# Altium footprint library Discretes.PCBLIB: 77 footprints (part 2 of 5)
Each footprint in its own frame and in the unit in brackets; x right, y up, seen from the top. Pads: shape width x height; smd on the part's side, far side on the other; paste and mask are expansions set on the pad; w line width, h text height; cw(c..) or ccw(c..) is an arc to the next point about the centre after c.
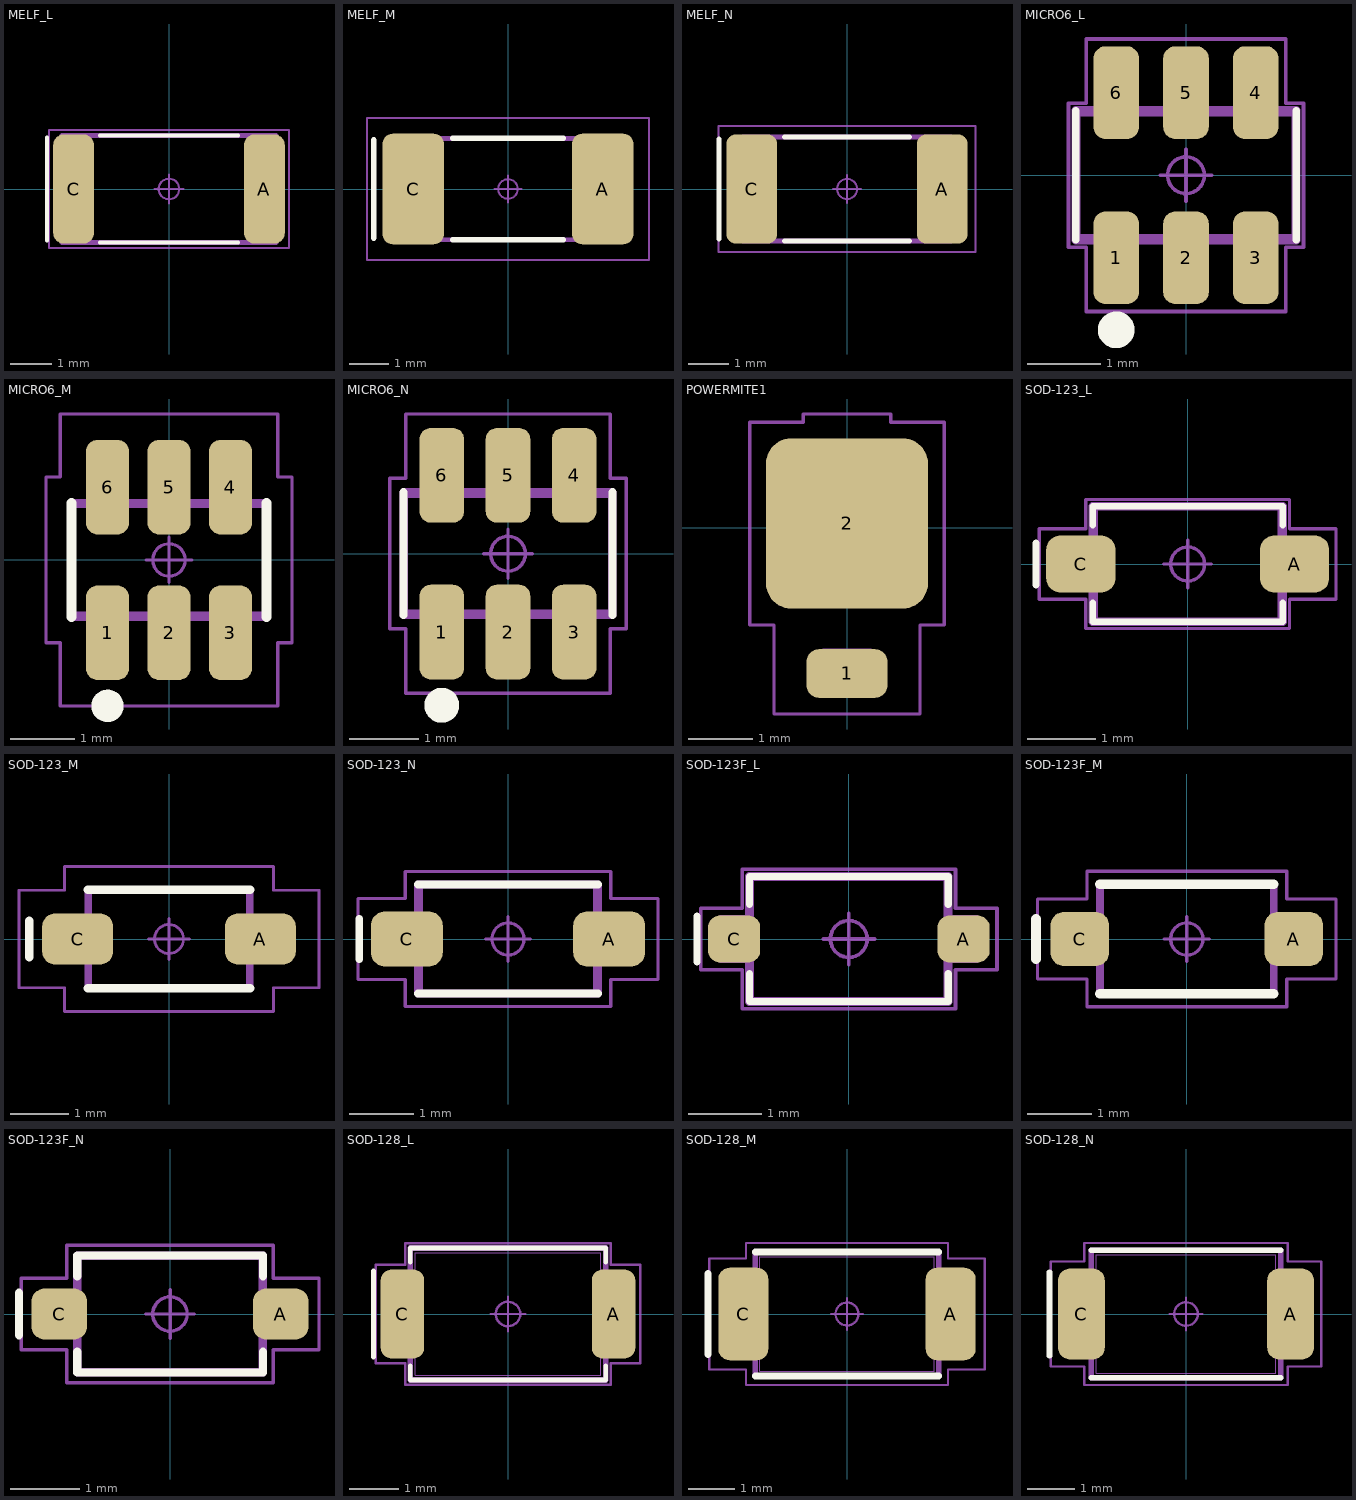
[diagram p1: the footprints below, top view; thin cyan lines are the x and y axes]

## MELF_L [mm] "Diode, Metal Electrode Leadless Face (MELF); 5.00 mm L X 2.50 mm Dia body"
height 2.6
pads (2):
  rrect51% 0.99x2.65 smd: A(2.315,0) C(-2.315,0)
Top Overlay:
  lines w0.1: -2.96,-1.25 -2.96,1.25 ; -1.67,-1.3 1.67,-1.3 ; -1.67,1.3 1.67,1.3
Top Body, 3D Models:
  lines w0.025: -2.5,-1.25 -2.5,1.25 2.5,1.25 2.5,-1.25 -2.5,-1.25
Top Courtyard:
  circle w0.05: c0,0 r0.25
  lines w0.05: -0.35,0 0.35,0 ; 0,-0.35 0,0.35 ; -2.91,-1.43 -2.91,1.43 2.91,1.43 2.91,-1.43 -2.91,-1.43
Top DesignatorDoc:
  text ".Designator" at 0,0 h1
Top Pad Outlines:
  lines w0.025: -2.5,-1.25 -1.95,-1.25 -1.95,1.25 -2.5,1.25 -2.5,-1.25 ; 1.95,-1.25 1.95,1.25 2.5,1.25 2.5,-1.25 1.95,-1.25
Top Assembly Outline:
  lines w0.12: -2.6,-1.3 -2.6,1.3 2.6,1.3 2.6,-1.3 -2.6,-1.3
3D body "MELF_L.STEP": height 2.5, standoff 0, extent -2.5,-1.25 2.5,1.25

## MELF_M [mm] "Diode, Metal Electrode Leadless Face (MELF); 5.00 mm L X 2.50 mm Dia body"
height 2.6
pads (2):
  rrect32% 1.57x2.83 smd: A(2.425,0) C(-2.425,0)
Top Overlay:
  lines w0.15: -3.435,-1.25 -3.435,1.25 ; -1.415,-1.3 1.415,-1.3 ; -1.415,1.3 1.415,1.3
Top Body, 3D Models:
  lines w0.025: -2.5,-1.25 -2.5,1.25 2.5,1.25 2.5,-1.25 -2.5,-1.25
Top Courtyard:
  circle w0.05: c0,0 r0.25
  lines w0.05: -0.35,0 0.35,0 ; 0,-0.35 0,0.35 ; -3.61,-1.82 -3.61,1.82 3.61,1.82 3.61,-1.82 -3.61,-1.82
Top DesignatorDoc:
  text ".Designator" at 0,0 h1.5
Top Pad Outlines:
  lines w0.025: -2.5,-1.25 -1.95,-1.25 -1.95,1.25 -2.5,1.25 -2.5,-1.25 ; 1.95,-1.25 1.95,1.25 2.5,1.25 2.5,-1.25 1.95,-1.25
Top Assembly Outline:
  lines w0.12: -2.6,-1.3 -2.6,1.3 2.6,1.3 2.6,-1.3 -2.6,-1.3
3D body "MELF_M.STEP": height 2.5, standoff 0, extent -2.5,-1.25 2.5,1.25

## MELF_N [mm] "Diode, Metal Electrode Leadless Face (MELF); 5.00 mm L X 2.50 mm Dia body"
height 2.6
pads (2):
  rrect39% 1.27x2.73 smd: A(2.375,0) C(-2.375,0)
Top Overlay:
  lines w0.12: -3.19,-1.25 -3.19,1.25 ; -1.56,-1.3 1.56,-1.3 ; -1.56,1.3 1.56,1.3
Top Body, 3D Models:
  lines w0.025: -2.5,-1.25 2.5,-1.25 2.5,1.25 -2.5,1.25 -2.5,-1.25
Top Courtyard:
  circle w0.05: c0,0 r0.25
  lines w0.05: -0.35,0 0.35,0 ; 0,-0.35 0,0.35 ; -3.21,-1.57 3.21,-1.57 3.21,1.57 -3.21,1.57 -3.21,-1.57
Top DesignatorDoc:
  text ".Designator" at 0,0 h1.2
Top Pad Outlines:
  lines w0.025: -2.5,-1.25 -2.5,1.25 -1.95,1.25 -1.95,-1.25 -2.5,-1.25 ; 1.95,-1.25 2.5,-1.25 2.5,1.25 1.95,1.25 1.95,-1.25
Top Assembly Outline:
  lines w0.12: -2.6,-1.3 2.6,-1.3 2.6,1.3 -2.6,1.3 -2.6,-1.3
3D body "MELF_N.STEP": height 2.5, standoff 0, extent -2.5,-1.25 2.5,1.25

## MICRO6_L [mm] "Small Outline Pkg (SOP), 0.95 mm pitch; 6 pin, 2.90 mm L X 1.625 mm W X 1.45 mm H body"
height 1.45
pads (6):
  rrect52% 0.62x1.26 smd: 1(-0.95,-1.125) 2(0,-1.125) 3(0.95,-1.125) 4(0.95,1.125) 5(0,1.125) 6(-0.95,1.125)
Top Overlay:
  circle w0.25: c-0.95,-2.105 r0.125
  lines w0.1: -1.5,-0.88 -1.5,0.88 ; 1.5,-0.88 1.5,0.88
Top Body, 3D Models:
  lines w0.025: -1.45,-0.813 1.45,-0.813 1.45,0.813 -1.45,0.813 -1.45,-0.813
Top Courtyard:
  circle w0.05: c0,0 r0.25
  lines w0.05: -0.35,0 0.35,0 ; 0,-0.35 0,0.35 ; -1.6,-0.98 -1.36,-0.98 -1.36,-1.855 1.36,-1.855 1.36,-0.98 1.6,-0.98 1.6,0.98 1.36,0.98 1.36,1.855 -1.36,1.855 -1.36,0.98 -1.6,0.98 -1.6,-0.98
Top DesignatorDoc:
  text ".Designator" at 0,0 h1
Top Pad Outlines:
  lines w0.025: -1.162,-1.4 -1.162,-1.05 -0.737,-1.05 -0.737,-1.4 -1.162,-1.4 ; -1.162,1.05 -1.162,1.4 -0.737,1.4 -0.737,1.05 -1.162,1.05 ; -0.212,-1.4 -0.212,-1.05 0.212,-1.05 0.212,-1.4 -0.212,-1.4 ; -0.212,1.05 -0.212,1.4 0.212,1.4 0.212,1.05 -0.212,1.05 ; 0.737,-1.4 0.737,-1.05 1.162,-1.05 1.162,-1.4 0.737,-1.4 ; 0.737,1.05 0.737,1.4 1.162,1.4 1.162,1.05 0.737,1.05
Top Assembly Outline:
  lines w0.12: -1.5,-0.88 1.5,-0.88 1.5,0.88 -1.5,0.88 -1.5,-0.88
3D body "MICRO6_L.STEP": height 1.45, standoff 0, extent -1.45,-1.4 1.45,1.4

## MICRO6_M [mm] "Small Outline Pkg (SOP), 0.95 mm pitch; 6 pin, 2.90 mm L X 1.625 mm W X 1.45 mm H body"
height 1.45
pads (6):
  rrect52% 0.66x1.46 smd: 1(-0.95,-1.125) 2(0,-1.125) 3(0.95,-1.125) 4(0.95,1.125) 5(0,1.125) 6(-0.95,1.125)
Top Overlay:
  circle w0.25: c-0.95,-2.255 r0.125
  lines w0.15: -1.505,-0.88 -1.505,0.88 ; 1.505,-0.88 1.505,0.88
Top Body, 3D Models:
  lines w0.025: -1.45,-0.813 -1.45,0.813 1.45,0.813 1.45,-0.813 -1.45,-0.813
Top Courtyard:
  circle w0.05: c0,0 r0.25
  lines w0.05: -0.35,0 0.35,0 ; 0,-0.35 0,0.35 ; -1.9,-1.28 -1.9,1.28 -1.68,1.28 -1.68,2.255 1.68,2.255 1.68,1.28 1.9,1.28 1.9,-1.28 1.68,-1.28 1.68,-2.255 -1.68,-2.255 -1.68,-1.28 -1.9,-1.28
Top DesignatorDoc:
  text ".Designator" at 0,0 h1.5
Top Pad Outlines:
  lines w0.025: -1.162,-1.4 -0.737,-1.4 -0.737,-1.05 -1.162,-1.05 -1.162,-1.4 ; -1.162,1.05 -0.737,1.05 -0.737,1.4 -1.162,1.4 -1.162,1.05 ; -0.212,-1.4 0.212,-1.4 0.212,-1.05 -0.212,-1.05 -0.212,-1.4 ; -0.212,1.05 0.212,1.05 0.212,1.4 -0.212,1.4 -0.212,1.05 ; 0.737,-1.4 1.162,-1.4 1.162,-1.05 0.737,-1.05 0.737,-1.4 ; 0.737,1.05 1.162,1.05 1.162,1.4 0.737,1.4 0.737,1.05
Top Assembly Outline:
  lines w0.12: -1.5,-0.88 -1.5,0.88 1.5,0.88 1.5,-0.88 -1.5,-0.88
3D body "MICRO6_M.STEP": height 1.45, standoff 0, extent -1.45,-1.4 1.45,1.4

## MICRO6_N [mm] "Small Outline Pkg (SOP), 0.95 mm pitch; 6 pin, 2.90 mm L X 1.625 mm W X 1.45 mm H body"
height 1.45
pads (6):
  rrect50% 0.64x1.36 smd: 1(-0.95,-1.125) 2(0,-1.125) 3(0.95,-1.125) 4(0.95,1.125) 5(0,1.125) 6(-0.95,1.125)
Top Overlay:
  circle w0.25: c-0.95,-2.175 r0.125
  lines w0.12: -1.5,-0.88 -1.5,0.88 ; 1.5,-0.88 1.5,0.88
Top Body, 3D Models:
  lines w0.025: -1.45,-0.813 1.45,-0.813 1.45,0.813 -1.45,0.813 -1.45,-0.813
Top Courtyard:
  circle w0.05: c0,0 r0.25
  lines w0.05: -0.35,0 0.35,0 ; 0,-0.35 0,0.35 ; -1.7,-1.08 -1.47,-1.08 -1.47,-2.005 1.47,-2.005 1.47,-1.08 1.7,-1.08 1.7,1.08 1.47,1.08 1.47,2.005 -1.47,2.005 -1.47,1.08 -1.7,1.08 -1.7,-1.08
Top DesignatorDoc:
  text ".Designator" at 0,0 h1.2
Top Pad Outlines:
  lines w0.025: -1.162,-1.4 -1.162,-1.05 -0.737,-1.05 -0.737,-1.4 -1.162,-1.4 ; -1.162,1.05 -1.162,1.4 -0.737,1.4 -0.737,1.05 -1.162,1.05 ; -0.212,-1.4 -0.212,-1.05 0.212,-1.05 0.212,-1.4 -0.212,-1.4 ; -0.212,1.05 -0.212,1.4 0.212,1.4 0.212,1.05 -0.212,1.05 ; 0.737,-1.4 0.737,-1.05 1.162,-1.05 1.162,-1.4 0.737,-1.4 ; 0.737,1.05 0.737,1.4 1.162,1.4 1.162,1.05 0.737,1.05
Top Assembly Outline:
  lines w0.12: -1.5,-0.88 1.5,-0.88 1.5,0.88 -1.5,0.88 -1.5,-0.88
3D body "MICRO6_N.STEP": height 1.45, standoff 0, extent -1.45,-1.4 1.45,1.4

## POWERMITE1 [mm]
height 1.15
pads (2):
  rrect51% 1.27x0.762 smd: 1(0,-2.286)
  rrect31% 2.54x2.67 smd paste-3.23: 2(0,0.065)
Top Paste:
  region: 1.016,-1.143 -1.016,-1.143 -1.016,1.27 1.016,1.27
Top Body, 3D Models:
  lines w0.025: -0.95,-1.06 0.95,-1.06 0.95,0.905 -0.95,0.905 -0.95,-1.06
Top Courtyard:
  circle w0.05: c0,0 r0.25
  lines w0.05: -0.35,0 0.35,0 ; 0,-0.35 0,0.35 ; -1.524,-1.524 -1.143,-1.524 -1.143,-2.921 1.143,-2.921 1.143,-1.524 1.524,-1.524 1.524,1.651 0.685,1.651 0.685,1.78 -0.685,1.78 -0.685,1.651 -1.524,1.651 -1.524,-1.524
Top DesignatorDoc:
  text ".Designator" at 0,-0.635 h1
Top Pad Outlines:
  lines w0.025: -1.016,-1.143 -1.016,1.27 1.016,1.27 1.016,-1.143 -1.016,-1.143 ; -0.381,-2.54 -0.381,-1.905 0.381,-1.905 0.381,-2.54 -0.381,-2.54
Top Assembly Outline:
  lines w0.12: -1.03,-1.168 -1.03,1.012 1.03,1.012 1.03,-1.168 -1.03,-1.168
3D body "POWERMITE1_L.STEP": height 1.15, standoff 0, extent -0.95,-2.51 0.95,1.24

## SOD-123_L [mm] "Diode, Small Outline Diode (SOD); 2.675 mm L X 1.60 mm W X 1.30 mm H body"
height 1.3
pads (2):
  rrect50% 1.02x0.84 smd: A(1.575,0) C(-1.575,0)
Top Overlay:
  lines w0.1: -2.235,-0.31 -2.235,0.31 ; -1.4,-0.57 -1.4,-0.85 1.4,-0.85 1.4,-0.57 ; -1.4,0.57 -1.4,0.85 1.4,0.85 1.4,0.57
Top Body, 3D Models:
  lines w0.025: -1.338,-0.8 -1.338,0.8 1.338,0.8 1.338,-0.8 -1.338,-0.8
Top Courtyard:
  circle w0.05: c0,0 r0.25
  lines w0.05: -0.35,0 0.35,0 ; 0,-0.35 0,0.35 ; -2.185,-0.52 -2.185,0.52 -1.5,0.52 -1.5,0.95 1.5,0.95 1.5,0.52 2.185,0.52 2.185,-0.52 1.5,-0.52 1.5,-0.95 -1.5,-0.95 -1.5,-0.52 -2.185,-0.52
Top DesignatorDoc:
  text ".Designator" at 0,0 h1
Top Pad Outlines:
  lines w0.025: -1.8,-0.312 -1.5,-0.312 -1.5,0.312 -1.8,0.312 -1.8,-0.312 ; 1.5,-0.312 1.5,0.312 1.8,0.312 1.8,-0.312 1.5,-0.312
Top Assembly Outline:
  lines w0.12: -1.4,-0.85 -1.4,0.85 1.4,0.85 1.4,-0.85 -1.4,-0.85
3D body "SOD-123_L.STEP": height 1.3, standoff 0, extent -1.8,-0.8 1.8,0.8

## SOD-123_M [mm] "Diode, Small Outline Diode (SOD); 2.675 mm L X 1.60 mm W X 1.30 mm H body"
height 1.3
pads (2):
  rrect50% 1.22x0.88 smd: A(1.575,0) C(-1.575,0)
Top Overlay:
  lines w0.15: -2.41,-0.31 -2.41,0.31 ; -1.4,-0.85 1.4,-0.85 ; -1.4,0.85 1.4,0.85
Top Body, 3D Models:
  lines w0.025: -1.338,-0.8 1.338,-0.8 1.338,0.8 -1.338,0.8 -1.338,-0.8
Top Courtyard:
  circle w0.05: c0,0 r0.25
  lines w0.05: -0.35,0 0.35,0 ; 0,-0.35 0,0.35 ; -2.585,-0.84 -1.8,-0.84 -1.8,-1.25 1.8,-1.25 1.8,-0.84 2.585,-0.84 2.585,0.84 1.8,0.84 1.8,1.25 -1.8,1.25 -1.8,0.84 -2.585,0.84 -2.585,-0.84
Top DesignatorDoc:
  text ".Designator" at 0,0 h1.5
Top Pad Outlines:
  lines w0.025: -1.8,-0.312 -1.8,0.312 -1.5,0.312 -1.5,-0.312 -1.8,-0.312 ; 1.5,-0.312 1.8,-0.312 1.8,0.312 1.5,0.312 1.5,-0.312
Top Assembly Outline:
  lines w0.12: -1.4,-0.85 1.4,-0.85 1.4,0.85 -1.4,0.85 -1.4,-0.85
3D body "SOD-123_M.STEP": height 1.3, standoff 0, extent -1.8,-0.8 1.8,0.8

## SOD-123_N [mm] "Diode, Small Outline Diode (SOD); 2.675 mm L X 1.60 mm W X 1.30 mm H body"
height 1.3
pads (2):
  rrect51% 1.12x0.86 smd: A(1.575,0) C(-1.575,0)
Top Overlay:
  lines w0.12: -2.315,-0.31 -2.315,0.31 ; -1.4,-0.85 1.4,-0.85 ; -1.4,0.85 1.4,0.85
Top Body, 3D Models:
  lines w0.025: -1.338,-0.8 1.338,-0.8 1.338,0.8 -1.338,0.8 -1.338,-0.8
Top Courtyard:
  circle w0.05: c0,0 r0.25
  lines w0.05: -0.35,0 0.35,0 ; 0,-0.35 0,0.35 ; -2.335,-0.63 -1.6,-0.63 -1.6,-1.05 1.6,-1.05 1.6,-0.63 2.335,-0.63 2.335,0.63 1.6,0.63 1.6,1.05 -1.6,1.05 -1.6,0.63 -2.335,0.63 -2.335,-0.63
Top DesignatorDoc:
  text ".Designator" at 0,0 h1.2
Top Pad Outlines:
  lines w0.025: -1.8,-0.312 -1.8,0.312 -1.5,0.312 -1.5,-0.312 -1.8,-0.312 ; 1.5,-0.312 1.8,-0.312 1.8,0.312 1.5,0.312 1.5,-0.312
Top Assembly Outline:
  lines w0.12: -1.4,-0.85 1.4,-0.85 1.4,0.85 -1.4,0.85 -1.4,-0.85
3D body "SOD-123_N.STEP": height 1.3, standoff 0, extent -1.8,-0.8 1.8,0.8

## SOD-123F_L [mm] "Diode, Small Outline Diode Flat Lead (SODFL); 2.60 mm L X 1.60 mm W X 1.20 mm H body"
height 1.2
pads (2):
  rrect50% 0.71x0.64 smd: A(1.56,0) C(-1.56,0)
Top Overlay:
  lines w0.1: -2.065,-0.31 -2.065,0.31 ; -1.35,-0.47 -1.35,-0.85 1.35,-0.85 1.35,-0.47 ; -1.35,0.47 -1.35,0.85 1.35,0.85 1.35,0.47
Top Body, 3D Models:
  lines w0.025: -1.3,-0.8 1.3,-0.8 1.3,0.8 -1.3,0.8 -1.3,-0.8
Top Courtyard:
  circle w0.05: c0,0 r0.25
  lines w0.05: -0.35,0 0.35,0 ; 0,-0.35 0,0.35 ; -2.015,-0.42 -1.45,-0.42 -1.45,-0.95 1.45,-0.95 1.45,-0.42 2.015,-0.42 2.015,0.42 1.45,0.42 1.45,0.95 -1.45,0.95 -1.45,0.42 -2.015,0.42 -2.015,-0.42
Top DesignatorDoc:
  text ".Designator" at 0,0 h1
Top Pad Outlines:
  lines w0.025: -1.75,-0.312 -1.75,0.312 -1.3,0.312 -1.3,-0.312 -1.75,-0.312 ; 1.3,-0.312 1.75,-0.312 1.75,0.312 1.3,0.312 1.3,-0.312
Top Assembly Outline:
  lines w0.12: -1.35,-0.85 1.35,-0.85 1.35,0.85 -1.35,0.85 -1.35,-0.85
3D body "SOD-123F_L.STEP": height 1.2, standoff 0, extent -1.75,-0.8 1.75,0.8

## SOD-123F_M [mm] "Diode, Small Outline Diode Flat Lead (SODFL); 2.60 mm L X 1.60 mm W X 1.20 mm H body"
height 1.2
pads (2):
  rrect50% 0.91x0.84 smd: A(1.66,0) C(-1.66,0)
Top Overlay:
  lines w0.15: -2.34,-0.31 -2.34,0.31 ; -1.35,-0.85 1.35,-0.85 ; -1.35,0.85 1.35,0.85
Top Body, 3D Models:
  lines w0.025: -1.3,-0.8 1.3,-0.8 1.3,0.8 -1.3,0.8 -1.3,-0.8
Top Courtyard:
  circle w0.05: c0,0 r0.25
  lines w0.05: -0.35,0 0.35,0 ; 0,-0.35 0,0.35 ; -2.315,-0.62 -1.55,-0.62 -1.55,-1.05 1.55,-1.05 1.55,-0.62 2.315,-0.62 2.315,0.62 1.55,0.62 1.55,1.05 -1.55,1.05 -1.55,0.62 -2.315,0.62 -2.315,-0.62
Top DesignatorDoc:
  text ".Designator" at 0,0 h1.5
Top Pad Outlines:
  lines w0.025: -1.75,-0.312 -1.75,0.312 -1.3,0.312 -1.3,-0.312 -1.75,-0.312 ; 1.3,-0.312 1.75,-0.312 1.75,0.312 1.3,0.312 1.3,-0.312
Top Assembly Outline:
  lines w0.12: -1.35,-0.85 1.35,-0.85 1.35,0.85 -1.35,0.85 -1.35,-0.85
3D body "SOD-123F_M.STEP": height 1.2, standoff 0, extent -1.75,-0.8 1.75,0.8

## SOD-123F_N [mm] "Diode, Small Outline Diode Flat Lead (SODFL); 2.60 mm L X 1.60 mm W X 1.20 mm H body"
height 1.2
pads (2):
  rrect51% 0.81x0.74 smd: A(1.61,0) C(-1.61,0)
Top Overlay:
  lines w0.12: -2.195,-0.31 -2.195,0.31 ; -1.35,-0.55 -1.35,-0.85 1.35,-0.85 1.35,-0.55 ; -1.35,0.55 -1.35,0.85 1.35,0.85 1.35,0.55
Top Body, 3D Models:
  lines w0.025: -1.3,-0.8 1.3,-0.8 1.3,0.8 -1.3,0.8 -1.3,-0.8
Top Courtyard:
  circle w0.05: c0,0 r0.25
  lines w0.05: -0.35,0 0.35,0 ; 0,-0.35 0,0.35 ; -2.165,-0.52 -1.5,-0.52 -1.5,-1 1.5,-1 1.5,-0.52 2.165,-0.52 2.165,0.52 1.5,0.52 1.5,1 -1.5,1 -1.5,0.52 -2.165,0.52 -2.165,-0.52
Top DesignatorDoc:
  text ".Designator" at 0,0 h1.2
Top Pad Outlines:
  lines w0.025: -1.75,-0.312 -1.75,0.312 -1.3,0.312 -1.3,-0.312 -1.75,-0.312 ; 1.3,-0.312 1.75,-0.312 1.75,0.312 1.3,0.312 1.3,-0.312
Top Assembly Outline:
  lines w0.12: -1.35,-0.85 1.35,-0.85 1.35,0.85 -1.35,0.85 -1.35,-0.85
3D body "SOD-123F_N.STEP": height 1.2, standoff 0, extent -1.75,-0.8 1.75,0.8

## SOD-128_L [mm] "Diode, Small Outline Diode Flat Lead (SODFL); 3.80 mm L X 2.50 mm W X 1.10 mm H body"
height 1.1
pads (2):
  rrect49% 0.89x1.82 smd: A(2.16,0) C(-2.16,0)
Top Overlay:
  lines w0.1: -2.755,-0.88 -2.755,0.88 ; -2,-1.06 -2,-1.35 2,-1.35 2,-1.06 ; -2,1.06 -2,1.35 2,1.35 2,1.06
Top Body, 3D Models:
  lines w0.025: -1.9,-1.25 -1.9,1.25 1.9,1.25 1.9,-1.25 -1.9,-1.25
Top Courtyard:
  circle w0.05: c0,0 r0.25
  lines w0.05: -0.35,0 0.35,0 ; 0,-0.35 0,0.35 ; -2.705,-1.01 -2.705,1.01 -2.1,1.01 -2.1,1.45 2.1,1.45 2.1,1.01 2.705,1.01 2.705,-1.01 2.1,-1.01 2.1,-1.45 -2.1,-1.45 -2.1,-1.01 -2.705,-1.01
Top DesignatorDoc:
  text ".Designator" at 0,0 h1
Top Pad Outlines:
  lines w0.025: -2.35,-0.875 -1.9,-0.875 -1.9,0.875 -2.35,0.875 -2.35,-0.875 ; 1.9,-0.875 1.9,0.875 2.35,0.875 2.35,-0.875 1.9,-0.875
Top Assembly Outline:
  lines w0.12: -2,-1.35 -2,1.35 2,1.35 2,-1.35 -2,-1.35
3D body "SOD128_L.STEP": height 1.1, standoff 0, extent -2.35,-1.25 2.35,1.25

## SOD-128_M [mm] "Diode, Small Outline Diode Flat Lead (SODFL); 3.80 mm L X 2.50 mm W X 1.10 mm H body"
height 1.1
pads (2):
  rrect46% 1.09x2.02 smd: A(2.26,0) C(-2.26,0)
Top Overlay:
  lines w0.15: -3.03,-0.88 -3.03,0.88 ; -2,-1.35 2,-1.35 ; -2,1.35 2,1.35
Top Body, 3D Models:
  lines w0.025: -1.9,-1.25 -1.9,1.25 1.9,1.25 1.9,-1.25 -1.9,-1.25
Top Courtyard:
  circle w0.05: c0,0 r0.25
  lines w0.05: -0.35,0 0.35,0 ; 0,-0.35 0,0.35 ; -3.005,-1.21 -3.005,1.21 -2.2,1.21 -2.2,1.55 2.2,1.55 2.2,1.21 3.005,1.21 3.005,-1.21 2.2,-1.21 2.2,-1.55 -2.2,-1.55 -2.2,-1.21 -3.005,-1.21
Top DesignatorDoc:
  text ".Designator" at 0,0 h1.5
Top Pad Outlines:
  lines w0.025: -2.35,-0.875 -1.9,-0.875 -1.9,0.875 -2.35,0.875 -2.35,-0.875 ; 1.9,-0.875 1.9,0.875 2.35,0.875 2.35,-0.875 1.9,-0.875
Top Assembly Outline:
  lines w0.12: -2,-1.35 -2,1.35 2,1.35 2,-1.35 -2,-1.35
3D body "SOD128_M.STEP": height 1.1, standoff 0, extent -2.35,-1.25 2.35,1.25

## SOD-128_N [mm] "Diode, Small Outline Diode Flat Lead (SODFL); 3.80 mm L X 2.50 mm W X 1.10 mm H body"
height 1.1
pads (2):
  rrect51% 0.99x1.92 smd: A(2.21,0) C(-2.21,0)
Top Overlay:
  lines w0.12: -2.885,-0.88 -2.885,0.88 ; -2,-1.35 2,-1.35 ; -2,1.35 2,1.35
Top Body, 3D Models:
  lines w0.025: -1.9,-1.25 1.9,-1.25 1.9,1.25 -1.9,1.25 -1.9,-1.25
Top Courtyard:
  circle w0.05: c0,0 r0.25
  lines w0.05: -0.35,0 0.35,0 ; 0,-0.35 0,0.35 ; -2.855,-1.11 -2.15,-1.11 -2.15,-1.5 2.15,-1.5 2.15,-1.11 2.855,-1.11 2.855,1.11 2.15,1.11 2.15,1.5 -2.15,1.5 -2.15,1.11 -2.855,1.11 -2.855,-1.11
Top DesignatorDoc:
  text ".Designator" at 0,0 h1.2
Top Pad Outlines:
  lines w0.025: -2.35,-0.875 -2.35,0.875 -1.9,0.875 -1.9,-0.875 -2.35,-0.875 ; 1.9,-0.875 2.35,-0.875 2.35,0.875 1.9,0.875 1.9,-0.875
Top Assembly Outline:
  lines w0.12: -2,-1.35 2,-1.35 2,1.35 -2,1.35 -2,-1.35
3D body "SOD128_N.STEP": height 1.1, standoff 0, extent -2.35,-1.25 2.35,1.25